# EAGLE library part THAT1206 (library that-ics)
THAT Corporation 1206 InGenius series balanced line receiver.
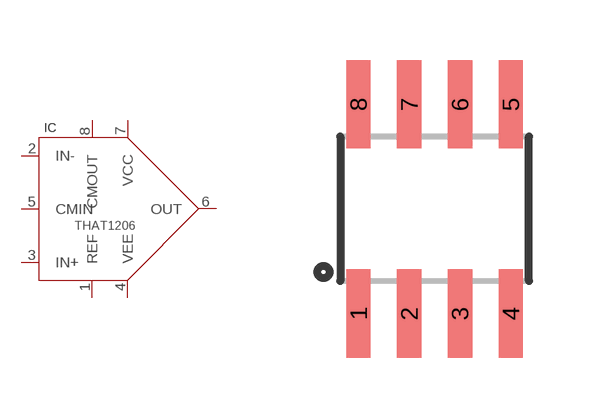
[diagram p0: symbol with the pads of SO08; footprint SO08]

Designator prefix IC

## THAT1206 (PROD_ID: IC-13469; VALUE: THAT1206)  [SO08]
1  REF
2  IN-
3  IN+
4  VEE
5  CMIN
6  OUT
7  VCC
8  CMOUT

## Footprint SO08 (pad centres in mm)
Small Outline Package Fits JEDEC packages (narrow SOIC-8)
smd 0.61 x 2.21: 1 -1.905,-2.616; 2 -0.635,-2.616; 3 0.635,-2.616; 4 1.905,-2.616; 5 1.905,2.616; 6 0.635,2.616; 7 -0.635,2.616; 8 -1.905,2.616